# EAGLE library part CARD_EDGE_20 (library Connectors)
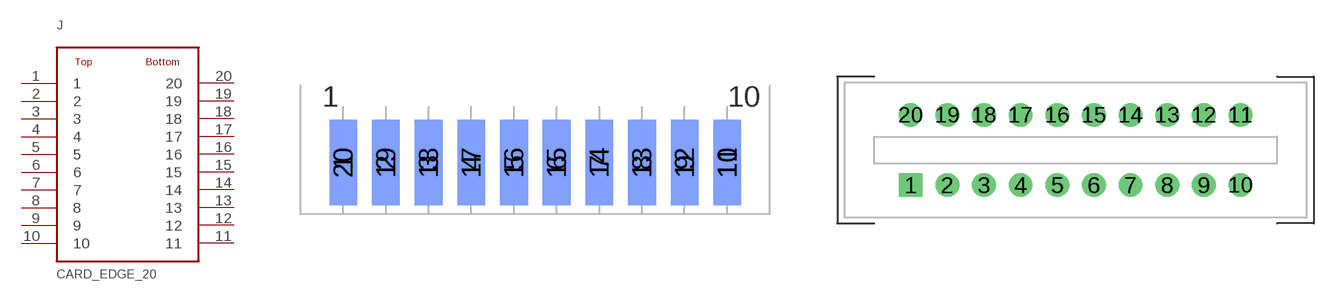
[diagram p0: symbol with the pads of CARD_EDGE_20; footprints CARD_EDGE_20, CARD_EDGE_20_PTH]

Designator prefix J

## CARD_EDGE_20-5-5530843-0  [CARD_EDGE_20]
1  1
2  2
3  3
4  4
5  5
6  6
7  7
8  8
9  9
10  10
11  11
12  12
13  13
14  14
15  15
16  16
17  17
18  18
19  19
20  20

## CARD_EDGE_20-SOCK-5-5530843-0  [CARD_EDGE_20_PTH]
Pads as for CARD_EDGE_20

## Footprint CARD_EDGE_20 (pad centres in mm)
smd 1.651 x 5.08: 1 -11.43,3.048; 2 -8.89,3.048; 3 -6.35,3.048; 4 -3.81,3.048; 5 -1.27,3.048; 6 1.27,3.048; 7 3.81,3.048; 8 6.35,3.048; 9 8.89,3.048; 10 11.43,3.048
smd 1.651 x 5.08 bottom: 11 11.43,3.048; 12 8.89,3.048; 13 6.35,3.048; 14 3.81,3.048; 15 1.27,3.048; 16 -1.27,3.048; 17 -3.81,3.048; 18 -6.35,3.048; 19 -8.89,3.048; 20 -11.43,3.048

## Footprint CARD_EDGE_20_PTH (pad centres in mm)
drill 1.1 square: 1 -11.43,-2.426
drill 1.1: 2 -8.89,-2.426; 3 -6.35,-2.426; 4 -3.81,-2.426; 5 -1.27,-2.426; 6 1.27,-2.426; 7 3.81,-2.426; 8 6.35,-2.426; 9 8.89,-2.426; 10 11.43,-2.426; 11 11.43,2.426; 12 8.89,2.426; 13 6.35,2.426; 14 3.81,2.426; 15 1.27,2.426; 16 -1.27,2.426; 17 -3.81,2.426; 18 -6.35,2.426; 19 -8.89,2.426; 20 -11.43,2.426